# EAGLE library part CD74HC4051-Q1 (library 491Library)
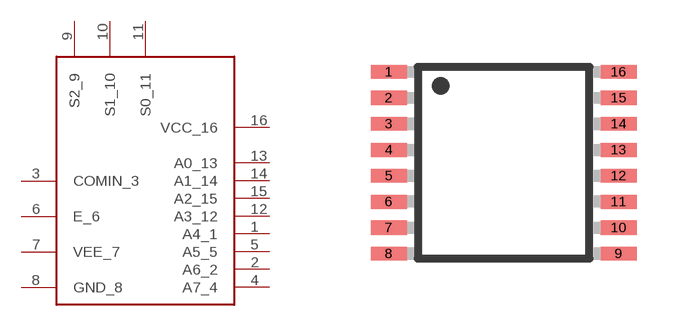
[diagram p0: symbol with the pads of TSSOP16; footprint TSSOP16]

Designator prefix -

## CD74HC4051-Q1  [TSSOP16]
1  A4_1
2  A6_2
3  COMIN_3
4  A7_4
5  A5_5
6  E_6
7  VEE_7
8  GND_8
9  S2_9
10  S1_10
11  S0_11
12  A3_12
13  A0_13
14  A1_14
15  A2_15
16  VCC_16

## Footprint TSSOP16 (pad centres in mm)
16-Lead Thin Shrink Small Outline Package [TSSOP] (RU-16) Source: 8x ADG1408_1409.pdf
smd 0.9 x 0.35: 1 -2.875,2.275; 2 -2.875,1.625; 3 -2.875,0.975; 4 -2.875,0.325; 5 -2.875,-0.325; 6 -2.875,-0.975; 7 -2.875,-1.625; 8 -2.875,-2.275; 9 2.875,-2.275; 10 2.875,-1.625; 11 2.875,-0.975; 12 2.875,-0.325; 13 2.875,0.325; 14 2.875,0.975; 15 2.875,1.625; 16 2.875,2.275